# EAGLE library part LT3465/A (library AR_IC)
LT3465/A LED Driver (Linear Technologies)
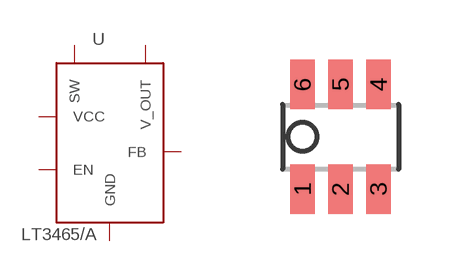
[diagram p1: symbol with the pads of SOT23-6; footprint SOT23-6]

Designator prefix -

## LT3465/A  [SOT23-6]
1  V_OUT
2  GND
3  FB
4  EN
5  VCC
6  SW

## Footprint SOT23-6 (pad centres in mm)
smd 0.62 x 1.23: 1 -0.95,-1.31; 2 0,-1.31; 3 0.95,-1.31; 4 0.95,1.31; 5 0,1.31; 6 -0.95,1.31